# Altium footprint library Mechanical.PcbLib: 61 footprints (part 1 of 4)
Each footprint in its own frame and in the unit in brackets; x right, y up, seen from the top. Pads: shape width x height; smd on the part's side, far side on the other; paste and mask are expansions set on the pad; w line width, h text height; cw(c..) or ccw(c..) is an arc to the next point about the centre after c.
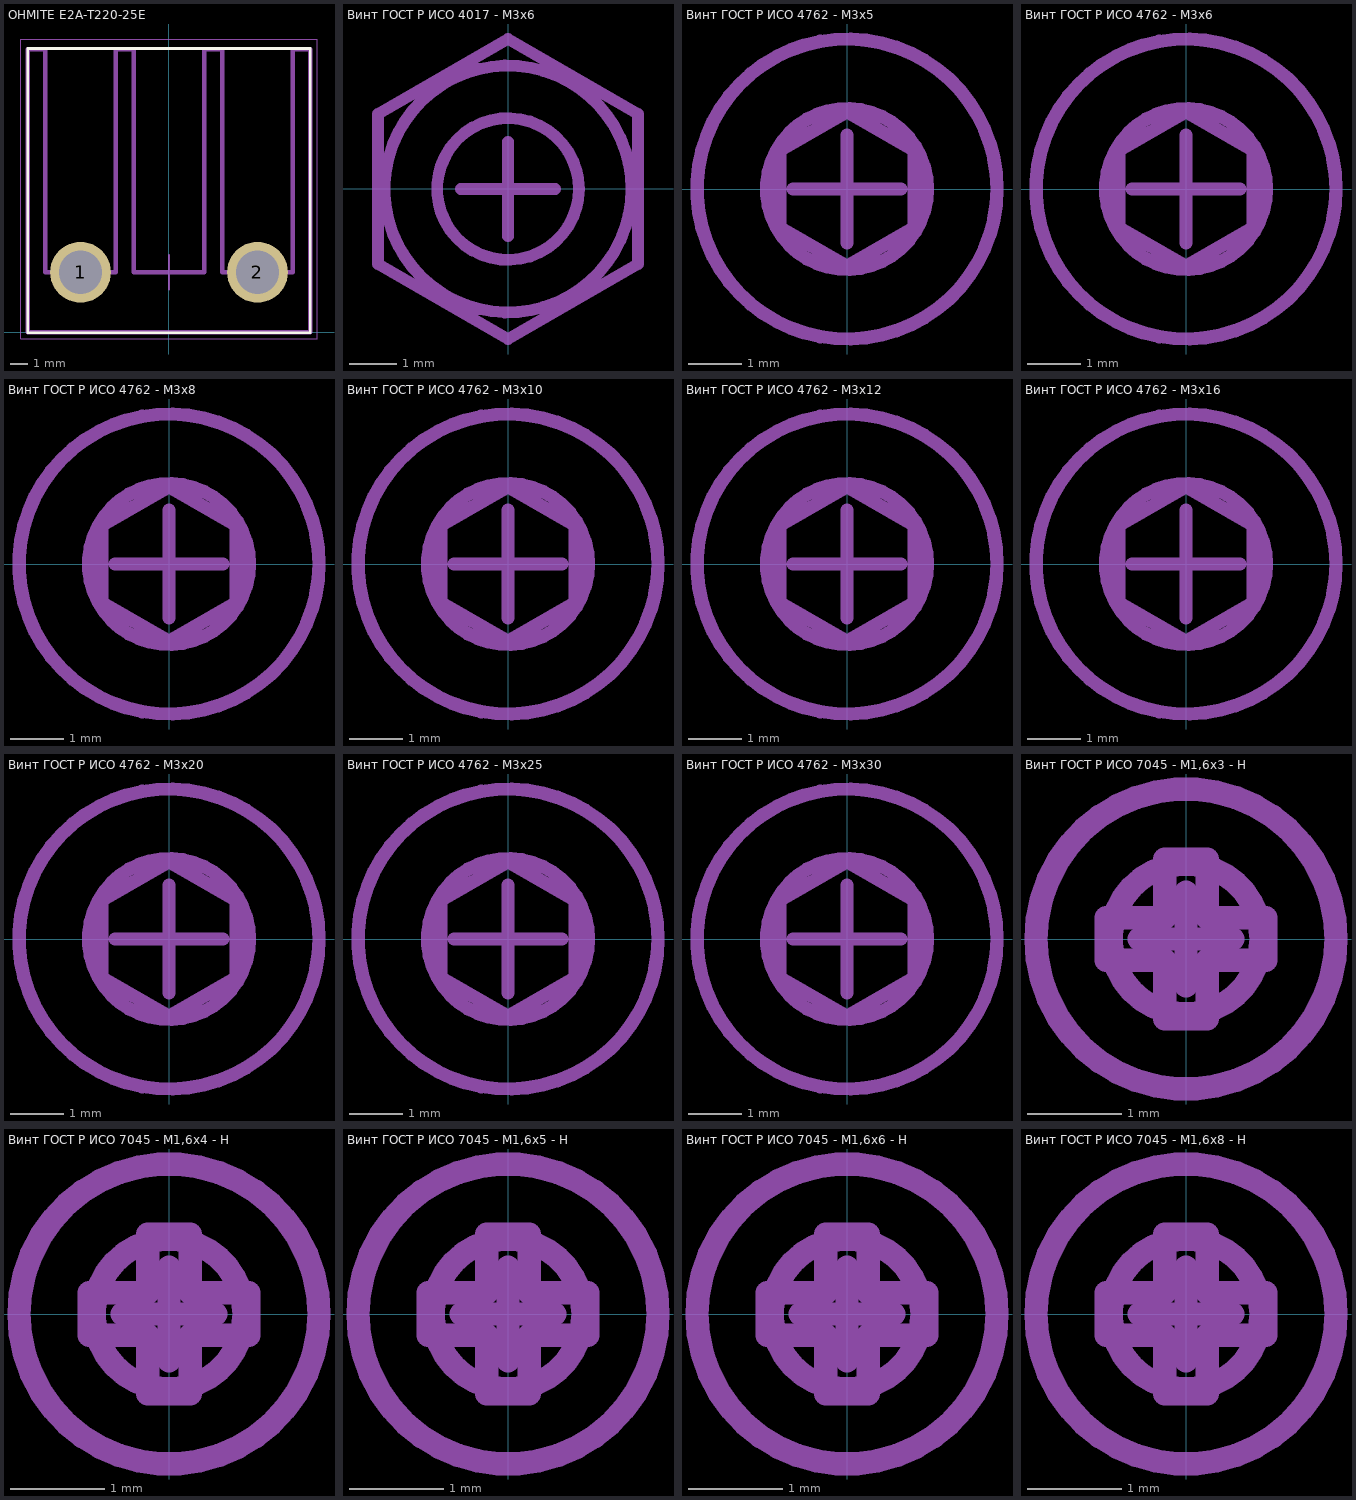
[diagram p0: the footprints below, top view; thin cyan lines are the x and y axes]

## OHMITE E2A-T220-25E [mm] "TO-220 Heat Sink 16.3x16.3x25.4 screw 6-32 18.3 up"
height 25.4
pads (2):
  round 3.5 hole 2.5: 1(-5.1,3.45) 2(5.1,3.45)
Top Overlay:
  lines w0.15: -8.148,-0.048 -8.148,16.348 8.148,16.348 8.148,-0.048 -8.148,-0.048
Top Assembly:
  lines w0.25: -8.15,0 -8.15,16.3 -7.132,16.3 -7.132,3.45 -3.068,3.45 -3.068,16.3 -2.032,16.3 -2.032,3.45 2.032,3.45 2.032,16.3 3.068,16.3 3.068,3.45 7.132,3.45 7.132,16.3 8.15,16.3 8.15,0 -8.15,0
  text ".Designator" at -3.378,1.261 h1.5
Top Courtyard:
  lines w0.05: -8.548,-0.398 -8.548,16.898 8.548,16.898 8.548,-0.398 -8.548,-0.398
  lines w0.1: -1,3.45 1,3.45 ; 0,2.45 0,4.45
3D body "E2A-T220-25E.STEP": height 25.4, standoff -4, extent -8.15,0 8.15,16.296

## Винт ГОСТ Р ИСО 4017 - М3x6 [mm] "Винт с шестигранной головкой ГОСТ Р ИСО 4017 - М3x6"
height 2
Top Assembly:
  circle w0.25: c0,0 r2.612
  lines w0.25: -2.75,-1.588 0,-3.176 2.75,-1.588 2.75,1.588 0,3.175 -2.75,1.588 -2.75,-1.588
Top Mech:
  circle w0.25: c0,0 r1.5
  lines w0.25: -1,0 1,0 ; 0,-1 0,1
3D body "ГОСТ Р ИСО 4017 M3x6.STEP": height 2, standoff -6, extent -2.75,-3.175 2.75,3.175

## Винт ГОСТ Р ИСО 4762 - М3x5 [mm] "Винт с цилиндрической головкой и шестигранным углублением под ключ ГОСТ Р ИСО 4762 - М3x5"
height 3
Top Assembly:
  circle w0.25: c0,0 r2.8
  lines w0.25: -1.25,-0.722 -1.25,0.722 0,1.443 1.25,0.722 1.25,-0.722 0,-1.444 -1.25,-0.722
Top Mech:
  circle w0.25: c0,0 r1.5
  lines w0.25: -1,0 1,0 ; 0,-1 0,1
3D body "ГОСТ Р ИСО 4762 - M3x5.STEP": height 3, standoff -5, extent -2.75,-2.742 2.75,2.742

## Винт ГОСТ Р ИСО 4762 - М3x6 [mm] "Винт с цилиндрической головкой и шестигранным углублением под ключ ГОСТ Р ИСО 4762 - М3x6"
height 3
Top Assembly:
  circle w0.25: c0,0 r2.8
  lines w0.25: -1.25,-0.722 -1.25,0.722 0,1.443 1.25,0.722 1.25,-0.722 0,-1.444 -1.25,-0.722
Top Mech:
  circle w0.25: c0,0 r1.5
  lines w0.25: -1,0 1,0 ; 0,-1 0,1
3D body "ГОСТ Р ИСО 4762 - M3x6.STEP": height 3, standoff -6, extent -2.75,-2.742 2.75,2.742

## Винт ГОСТ Р ИСО 4762 - М3x8 [mm] "Винт с цилиндрической головкой и шестигранным углублением под ключ ГОСТ Р ИСО 4762 - М3x8"
Top Assembly:
  circle w0.25: c0,0 r2.8
  lines w0.25: -1.25,-0.722 0,-1.444 1.25,-0.722 1.25,0.722 0,1.443 -1.25,0.722 -1.25,-0.722
Top Mech:
  circle w0.25: c0,0 r1.5
  lines w0.25: -1,0 1,0 ; 0,-1 0,1
3D body "ГОСТ Р ИСО 4762 - M3x8.STEP": height 3, standoff -8, extent -2.75,-2.742 2.75,2.742

## Винт ГОСТ Р ИСО 4762 - М3x10 [mm] "Винт с цилиндрической головкой и шестигранным углублением под ключ ГОСТ Р ИСО 4762 - М3x10"
height 3
Top Assembly:
  circle w0.25: c0,0 r2.8
  lines w0.25: -1.25,-0.722 0,-1.444 1.25,-0.722 1.25,0.722 0,1.443 -1.25,0.722 -1.25,-0.722
Top Mech:
  circle w0.25: c0,0 r1.5
  lines w0.25: -1,0 1,0 ; 0,-1 0,1
3D body "ГОСТ Р ИСО 4762 - M3x10.STEP": height 3, standoff -10, extent -2.75,-2.742 2.75,2.742

## Винт ГОСТ Р ИСО 4762 - М3x12 [mm] "Винт с цилиндрической головкой и шестигранным углублением под ключ ГОСТ Р ИСО 4762 - М3x12"
height 3
Top Assembly:
  circle w0.25: c0,0 r2.8
  lines w0.25: -1.25,-0.722 -1.25,0.722 0,1.443 1.25,0.722 1.25,-0.722 0,-1.444 -1.25,-0.722
Top Mech:
  circle w0.25: c0,0 r1.5
  lines w0.25: -1,0 1,0 ; 0,-1 0,1
3D body "ГОСТ Р ИСО 4762 - M3x12.STEP": height 3, standoff -12, extent -2.75,-2.742 2.75,2.742

## Винт ГОСТ Р ИСО 4762 - М3x16 [mm] "Винт с цилиндрической головкой и шестигранным углублением под ключ ГОСТ Р ИСО 4762 - М3x16"
height 3
Top Assembly:
  circle w0.25: c0,0 r2.8
  lines w0.25: -1.25,-0.722 -1.25,0.722 0,1.443 1.25,0.722 1.25,-0.722 0,-1.444 -1.25,-0.722
Top Mech:
  circle w0.25: c0,0 r1.5
  lines w0.25: -1,0 1,0 ; 0,-1 0,1
3D body "ГОСТ Р ИСО 4762 - M3x16.STEP": height 3, standoff -16, extent -2.75,-2.742 2.75,2.742

## Винт ГОСТ Р ИСО 4762 - М3x20 [mm] "Винт с цилиндрической головкой и шестигранным углублением под ключ ГОСТ Р ИСО 4762 - М3x20"
height 3
Top Assembly:
  circle w0.25: c0,0 r2.8
  lines w0.25: -1.25,-0.722 0,-1.444 1.25,-0.722 1.25,0.722 0,1.443 -1.25,0.722 -1.25,-0.722
Top Mech:
  circle w0.25: c0,0 r1.5
  lines w0.25: -1,0 1,0 ; 0,-1 0,1
3D body "ГОСТ Р ИСО 4762 - M3x20.STEP": height 3, standoff -20, extent -2.75,-2.742 2.75,2.742

## Винт ГОСТ Р ИСО 4762 - М3x25 [mm] "Винт с цилиндрической головкой и шестигранным углублением под ключ ГОСТ Р ИСО 4762 - М3x25"
height 3
Top Assembly:
  circle w0.25: c0,0 r2.8
  lines w0.25: -1.25,-0.722 0,-1.444 1.25,-0.722 1.25,0.722 0,1.443 -1.25,0.722 -1.25,-0.722
Top Mech:
  circle w0.25: c0,0 r1.5
  lines w0.25: -1,0 1,0 ; 0,-1 0,1
3D body "ГОСТ Р ИСО 4762 - M3x25.STEP": height 3, standoff -25, extent -2.75,-2.75 2.75,2.75

## Винт ГОСТ Р ИСО 4762 - М3x30 [mm] "Винт с цилиндрической головкой и шестигранным углублением под ключ ГОСТ Р ИСО 4762 - М3x30"
height 3
Top Assembly:
  circle w0.25: c0,0 r2.8
  lines w0.25: -1.25,-0.722 -1.25,0.722 0,1.443 1.25,0.722 1.25,-0.722 0,-1.444 -1.25,-0.722
Top Mech:
  circle w0.25: c0,0 r1.5
  lines w0.25: -1,0 1,0 ; 0,-1 0,1
3D body "ГОСТ Р ИСО 4762 - M3x30.STEP": height 3, standoff -30, extent -2.75,-2.742 2.75,2.742

## Винт ГОСТ Р ИСО 7045 - М1,6x3 - H [mm] "Винт со скругленной головкой ГОСТ Р ИСО 7045 - М1,6x3 - H"
height 1.3
Top Assembly:
  circle w0.25: c0,0 r1.6
  lines w0.25: -0.85,-0.225 -0.225,-0.225 -0.225,-0.85 0.225,-0.85 0.225,-0.225 0.85,-0.225 0.85,0.225 0.225,0.225 0.225,0.85 -0.225,0.85 -0.225,0.225 -0.85,0.225 -0.85,-0.225
Top Mech:
  circle w0.25: c0,0 r0.8
  lines w0.25: -0.5,0 0.5,0 ; 0,-0.5 0,0.5
3D body "ГОСТ Р ИСО 7045 - M1,6x3 - H.STEP": height 1.29, standoff -2.99, extent -1.6,-1.6 1.6,1.6

## Винт ГОСТ Р ИСО 7045 - М1,6x4 - H [mm] "Винт со скругленной головкой ГОСТ Р ИСО 7045 - М1,6x4 - H"
height 1.3
Top Assembly:
  circle w0.25: c0,0 r1.6
  lines w0.25: -0.85,-0.225 -0.85,0.225 -0.225,0.225 -0.225,0.85 0.225,0.85 0.225,0.225 0.85,0.225 0.85,-0.225 0.225,-0.225 0.225,-0.85 -0.225,-0.85 -0.225,-0.225 -0.85,-0.225
Top Mech:
  circle w0.25: c0,0 r0.8
  lines w0.25: -0.5,0 0.5,0 ; 0,-0.5 0,0.5
3D body "ГОСТ Р ИСО 7045 - M1,6x4 - H.STEP": height 1.29, standoff -3.99, extent -1.6,-1.6 1.6,1.6

## Винт ГОСТ Р ИСО 7045 - М1,6x5 - H [mm] "Винт со скругленной головкой ГОСТ Р ИСО 7045 - М1,6x5 - H"
height 1.3
Top Assembly:
  circle w0.25: c0,0 r1.6
  lines w0.25: -0.85,-0.225 -0.85,0.225 -0.225,0.225 -0.225,0.85 0.225,0.85 0.225,0.225 0.85,0.225 0.85,-0.225 0.225,-0.225 0.225,-0.85 -0.225,-0.85 -0.225,-0.225 -0.85,-0.225
Top Mech:
  circle w0.25: c0,0 r0.8
  lines w0.25: -0.5,0 0.5,0 ; 0,-0.5 0,0.5
3D body "ГОСТ Р ИСО 7045 - M1,6x5 - H.STEP": height 1.29, standoff -4.99, extent -1.6,-1.6 1.6,1.6

## Винт ГОСТ Р ИСО 7045 - М1,6x6 - H [mm] "Винт со скругленной головкой ГОСТ Р ИСО 7045 - М1,6x6 - H"
height 1.3
Top Assembly:
  circle w0.25: c0,0 r1.6
  lines w0.25: -0.85,-0.225 -0.85,0.225 -0.225,0.225 -0.225,0.85 0.225,0.85 0.225,0.225 0.85,0.225 0.85,-0.225 0.225,-0.225 0.225,-0.85 -0.225,-0.85 -0.225,-0.225 -0.85,-0.225
Top Mech:
  circle w0.25: c0,0 r0.8
  lines w0.25: -0.5,0 0.5,0 ; 0,-0.5 0,0.5
3D body "ГОСТ Р ИСО 7045 - M1,6x6 - H.STEP": height 1.29, standoff -5.99, extent -1.6,-1.6 1.6,1.6

## Винт ГОСТ Р ИСО 7045 - М1,6x8 - H [mm] "Винт со скругленной головкой ГОСТ Р ИСО 7045 - М1,6x8 - H"
height 1.3
Top Assembly:
  circle w0.25: c0,0 r1.6
  lines w0.25: -0.85,-0.225 -0.225,-0.225 -0.225,-0.85 0.225,-0.85 0.225,-0.225 0.85,-0.225 0.85,0.225 0.225,0.225 0.225,0.85 -0.225,0.85 -0.225,0.225 -0.85,0.225 -0.85,-0.225
Top Mech:
  circle w0.25: c0,0 r0.8
  lines w0.25: -0.5,0 0.5,0 ; 0,-0.5 0,0.5
3D body "ГОСТ Р ИСО 7045 - M1,6x8 - H.STEP": height 1.29, standoff -7.99, extent -1.6,-1.6 1.6,1.6